# EAGLE library part MELEXIS_TECHNOLOGIES_MLX90393SLW-ABA-011-RE (library Melexis Technologies - MLX90393SLW-ABA-011-RE)
Micropower Triaxis Magnetometer Datasheet
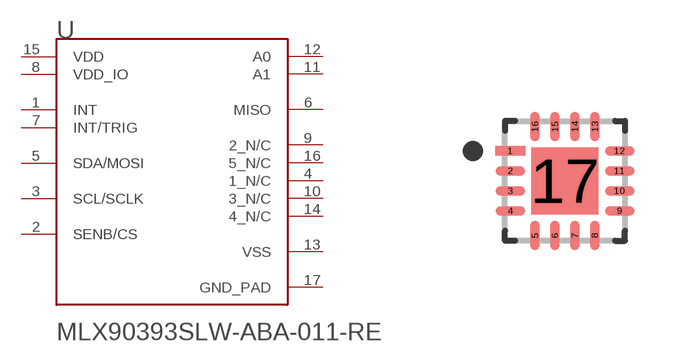
[diagram p0: symbol with the pads of MELEXIS_TECHNOLOGIES_MLX90393SLW-ABA-011-RE_0; footprint MELEXIS_TECHNOLOGIES_MLX90393SLW-ABA-011-RE_0]

Designator prefix U

## MELEXIS_TECHNOLOGIES_MLX90393SLW-ABA-011-REMELEXIS_TECHNOLOGIES_MLX90393SLW-ABA-011-RE_0_0 (DATASHEET: https://www.melexis.com/-/media/files/documents/datasheets/mlx90393-datasheet-melexis.pdf; DIGIKEY_DESCRIPTION: IC Hall Effect Sensor X, Y, Z Axis 16-QFN (3x3); DIGIKEY_PART_NUMBER: MLX90393SLW-ABA-011-RECT-ND; IPC_LAND_PATTERN_NAME: QFN50P300X300X90-16; LEAD_FREE: yes; MF: Melexis Technologies; MOUSER_PART_NUMBER: 482-90393SLWABA011RE; MPN: MLX90393SLW-ABA-011-RE; PACKAGE: QFN-16; PREFIX: U; ROHS: yes; TEMPERATURE_RANGE_HIGH: +85°C; TEMPERATURE_RANGE_LOW: -20°C)  [MELEXIS_TECHNOLOGIES_MLX90393SLW-ABA-011-RE_0]
1  INT
2  SENB/CS
3  SCL/SCLK
4  1_N/C
5  SDA/MOSI
6  MISO
7  INT/TRIG
8  VDD_IO
9  2_N/C
10  3_N/C
11  A1
12  A0
13  VSS
14  4_N/C
15  VDD
16  5_N/C
17  GND_PAD

## Footprint MELEXIS_TECHNOLOGIES_MLX90393SLW-ABA-011-RE_0 (pad centres in mm)
Micropower Triaxis Magnetometer Datasheet
smd 0.74 x 0.239: 1 -1.366,0.75; 2 -1.366,0.25; 3 -1.366,-0.25; 4 -1.366,-0.75; 9 1.366,-0.75; 10 1.366,-0.25; 11 1.366,0.25; 12 1.366,0.75
smd 0.239 x 0.74: 5 -0.75,-1.366; 6 -0.25,-1.366; 7 0.25,-1.366; 8 0.75,-1.366; 13 0.75,1.365; 14 0.25,1.365; 15 -0.25,1.365; 16 -0.75,1.365
smd 1.675 x 1.675: 17 0,0